# Altium footprint library myPcbLib1.PcbLib: 133 footprints (part 4 of 9)
Each footprint in its own frame and in the unit in brackets; x right, y up, seen from the top. Pads: shape width x height; smd on the part's side, far side on the other; paste and mask are expansions set on the pad; w line width, h text height; cw(c..) or ccw(c..) is an arc to the next point about the centre after c.
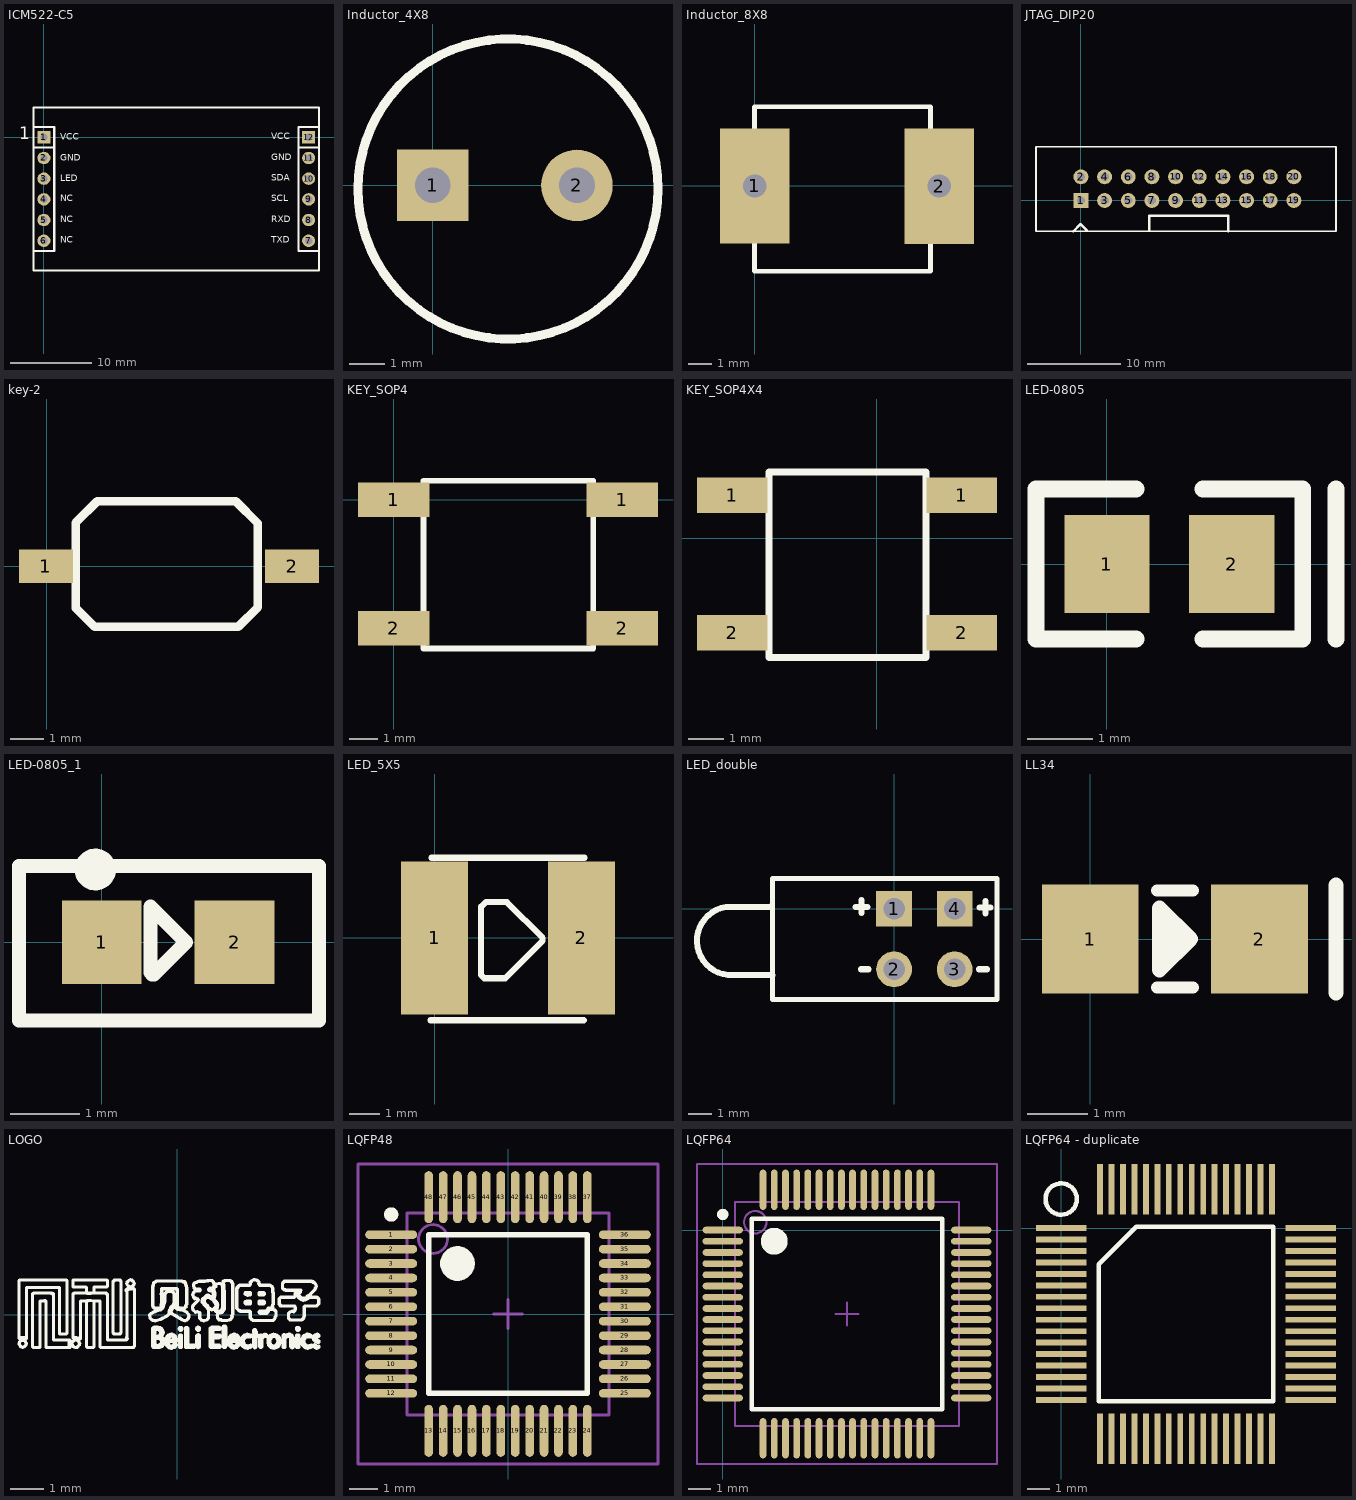
[diagram p3: the footprints below, top view; thin cyan lines are the x and y axes]

## ICM522-C5 [mm]
pads (12):
  rect 1.6x1.5 hole 0.9: 1(0,0) 12(32.487,0)
  oval 1.6x1.5 hole 0.9: 2(0,-2.54) 3(0,-5.08) 4(0,-7.62) 5(0,-10.16) 6(0,-12.7) 7(32.487,-12.7) 8(32.487,-10.16) 9(32.487,-7.62) 10(32.487,-5.08) 11(32.487,-2.54)
Top Overlay:
  lines w0.254: -1.27,-1.27 1.27,-1.27 ; 31.217,-1.27 33.757,-1.27 ; -1.27,-13.97 1.27,-13.97 1.27,1.27 -1.27,1.27 -1.27,-13.97 ; -1.256,-16.35 33.744,-16.35 33.744,3.65 -1.256,3.65 -1.256,-16.35 ; 31.217,-13.97 33.757,-13.97 33.757,1.27 31.217,1.27 31.217,-13.97
  text "RXD" at 27.928,-10.414 h0.8
  text "GND" at 27.928,-2.794 h0.8
  text "TXD" at 27.928,-12.954 h0.8
  text "NC" at 2.02,-12.954 h0.8
  text "NC" at 2.02,-7.874 h0.8
  text "NC" at 2.02,-10.414 h0.8
  text "LED" at 2.023,-5.371 h0.8
  text "SCL" at 27.928,-7.874 h0.8
  text "SDA" at 27.928,-5.334 h0.8
  text "GND" at 2.023,-2.903 h0.8
  text "VCC" at 1.975,-0.325 h0.8
  text "VCC" at 27.928,-0.254 h0.8
  text "1" at -3.06,-0.254 h1.52

## Inductor_4X8 [mm]
pads (2):
  rect 2x2 hole 1: 1(0,0)
  round 2 hole 1: 2(4.039,0)
Top Overlay:
  circle w0.254: c2.108,-0.102 r4.2

## Inductor_8X8 [mm]
pads (2):
  rect 3x5 hole 1: 1(0,0) 2(7.993,-0.003)
Top Overlay:
  lines w0.203: -0.007,-3.686 7.613,-3.686 7.613,3.426 -0.007,3.426 -0.007,3.172 -0.007,-3.686

## JTAG_DIP20 [mm]
pads (20):
  rect 1.6x1.6 hole 0.9: 1(0,0)
  round 1.6 hole 0.9: 2(0,2.54) 3(2.54,0) 4(2.54,2.54) 5(5.08,0) 6(5.08,2.54) 7(7.62,0) 8(7.62,2.54) 9(10.16,0) 10(10.16,2.54) 11(12.7,0) 12(12.7,2.54) 13(15.24,0) 14(15.24,2.54) 15(17.78,0) 16(17.78,2.54) 17(20.32,0) 18(20.32,2.54) 19(22.86,0) 20(22.86,2.54)
Top Overlay:
  lines w0.2: -4.826,0.635 -4.826,5.766 27.381,5.766 27.381,-3.302 -4.826,-3.302 -4.826,1.905
  lines w0.254: -0.813,-3.302 -0.051,-2.54 0.635,-3.226 ; 7.341,-3.226 7.341,-1.651 15.824,-1.651 15.824,-3.302

## key-2 [mm] "3*6*2.5mm"
pads (2):
  rect 1.6x1 smd: 1(-0.025,0) 2(7.29,0)
Top Overlay:
  lines w0.254: 0.864,-1.245 1.422,-1.803 5.69,-1.803 6.274,-1.219 6.274,1.27 5.613,1.93 1.499,1.93 0.864,1.295 0.864,0.508 0.864,-1.245

## KEY_SOP4 [mm]
pads (4):
  rect 2.5x1.2 smd: 1(0,0) 1(8,0) 2(0,-4.5) 2(8,-4.5)
Top Overlay:
  lines w0.2: 1.041,-5.207 1.041,0.66 6.985,0.66 6.985,-5.207 1.041,-5.207

## KEY_SOP4X4 [mm]
pads (4):
  rect 2x1 smd: 1(-4.089,1.219) 1(2.412,1.219) 2(-4.089,-2.671) 2(2.412,-2.671)
Top Overlay:
  lines w0.2: -3.048,-3.378 -3.048,1.88 1.397,1.88 1.397,-3.378 -3.048,-3.378

## LED-0805 [mm]
pads (2):
  rect 1.3x1.5 smd: 1(0,0) 2(1.9,0)
Top Overlay:
  lines w0.254: 0.442,-1.143 -1.082,-1.143 -1.082,1.143 0.442,1.143 ; 1.458,-1.143 2.982,-1.143 2.982,1.143 1.458,1.143 ; 3.49,-1.143 3.49,1.143

## LED-0805_1 [mm]
pads (2):
  rect 1.14x1.2 smd: 1(0,0) 2(1.9,0)
Top Overlay:
  circle w0.254: c-0.091,1.041 r0.17
  lines w0.2: -1.184,-1.118 -1.184,0.27 -1.184,1.092 3.109,1.092 3.109,-1.118 -1.184,-1.118
  lines w0.203: 0.696,-0.432 0.696,0.508 1.204,0 0.747,-0.457 0.721,-0.457 0.696,-0.432

## LED_5X5 [mm]
pads (2):
  rect 2.2x5 smd: 1(0,0) 2(4.801,0)
Top Overlay:
  lines w0.2: -0.127,-2.692 4.877,-2.692 ; -0.102,2.616 4.902,2.616 ; 1.524,-1.219 1.524,1.016 1.676,1.168 1.905,1.168 2.362,1.168 3.531,0 3.531,-0.102 2.311,-1.321 1.753,-1.321 1.626,-1.321 1.524,-1.219

## LED_double [mm]
pads (4):
  rect 1.5x1.5 hole 0.9: 1(0,0) 4(2.54,0)
  round 1.5 hole 0.9: 2(0,-2.54) 3(2.54,-2.54)
Top Overlay:
  lines w0.2: 0.635,1.27 4.318,1.27 4.318,-3.81 -5.105,-3.81 -5.105,1.27 1.905,1.27
  lines w0.254: -5.156,0.102 cw(c-5.218,0.163) -5.218,0.076 -7.061,0.076 ccw(c-6.833,-1.346) -6.965,-2.781 -5.137,-2.781 cw(c-5.137,-2.826) -5.105,-2.794 ; -1.626,0.076 -1.118,0.076 ; -1.397,-2.54 -1.067,-2.54 ; -1.372,-0.167 -1.372,0.356 ; 3.556,-2.54 3.901,-2.54 ; 3.581,0.051 4.039,0.051 ; 3.835,-0.203 3.835,0.33

## LL34 [mm]
pads (2):
  rect 1.6x1.8 smd: 1(0,0) 2(2.8,0)
Top Overlay:
  lines w0.2: 1.1,-0.8 1.7,-0.8 ; 1.1,0.8 1.7,0.8
  lines w0.254: 1.39,0.264 1.39,-0.01 1.146,-0.254 1.146,0.508 ; 4.067,-0.889 4.067,0.889 ; 1.146,0.508 1.146,-0.508 1.654,0 1.146,0.508

## LOGO [mm]
Top Overlay:
  drawing of 1860 lines, arcs and shapes, not listed

## LQFP48 [mm]
pads (48):
  oval 1.8x0.3 smd: 1(-4.05,2.75) 2(-4.05,2.25) 3(-4.05,1.75) 4(-4.05,1.25) 5(-4.05,0.75) 6(-4.05,0.25) 7(-4.05,-0.25) 8(-4.05,-0.75) 9(-4.05,-1.25) 10(-4.05,-1.75) 11(-4.05,-2.25) 12(-4.05,-2.75) 25(4.05,-2.75) 26(4.05,-2.25) 27(4.05,-1.75) 28(4.05,-1.25) 29(4.05,-0.75) 30(4.05,-0.25) 31(4.05,0.25) 32(4.05,0.75) 33(4.05,1.25) 34(4.05,1.75) 35(4.05,2.25) 36(4.05,2.75)
  oval 0.3x1.8 smd: 13(-2.75,-4.05) 14(-2.25,-4.05) 15(-1.75,-4.05) 16(-1.25,-4.05) 17(-0.75,-4.05) 18(-0.25,-4.05) 19(0.25,-4.05) 20(0.75,-4.05) 21(1.25,-4.05) 22(1.75,-4.05) 23(2.25,-4.05) 24(2.75,-4.05) 37(2.75,4.05) 38(2.25,4.05) 39(1.75,4.05) 40(1.25,4.05) 41(0.75,4.05) 42(0.25,4.05) 43(-0.25,4.05) 44(-0.75,4.05) 45(-1.25,4.05) 46(-1.75,4.05) 47(-2.25,4.05) 48(-2.75,4.05)
Top Overlay:
  circle w0.25: c-4.05,3.45 r0.125
  circle w0.6: c-1.75,1.75 r0.3
  lines w0.2: -2.75,-2.75 -2.75,2.75 2.75,2.75 2.75,-2.75 -2.75,-2.75
Mechanical 13:
  circle w0.1: c-2.6,2.6 r0.5
  lines w0.1: -3.5,-3.5 -3.5,3.5 3.5,3.5 3.5,-3.5 -3.5,-3.5
Mechanical 15:
  lines w0.1: -0.5,0 0.5,0 ; 0,-0.5 0,0.5 ; -5.2,-5.2 -5.2,5.2 5.2,5.2 5.2,-5.2 -5.2,-5.2
3D body: height 1.6, standoff 0, extent -3.5,-3.5 3.5,3.5

## LQFP64 [mm] "Thin QFP, 64-Leads, Body 10x10mm, Pitch 0.5mm, IPC Medium Density"
pads (64):
  oval 1.8x0.3 smd: 1(0,0) 2(0,-0.5) 3(0,-1) 4(0,-1.5) 5(0,-2) 6(0,-2.5) 7(0,-3) 8(0,-3.5) 9(0,-4) 10(0,-4.5) 11(0,-5) 12(0,-5.5) 13(0,-6) 14(0,-6.5) 15(0,-7) 16(0,-7.5) 33(11.1,-7.5) 34(11.1,-7) 35(11.1,-6.5) 36(11.1,-6) 37(11.1,-5.5) 38(11.1,-5) 39(11.1,-4.5) 40(11.1,-4) 41(11.1,-3.5) 42(11.1,-3) 43(11.1,-2.5) 44(11.1,-2) 45(11.1,-1.5) 46(11.1,-1) 47(11.1,-0.5) 48(11.1,0)
  oval 0.3x1.8 smd: 17(1.8,-9.3) 18(2.3,-9.3) 19(2.8,-9.3) 20(3.3,-9.3) 21(3.8,-9.3) 22(4.3,-9.3) 23(4.8,-9.3) 24(5.3,-9.3) 25(5.8,-9.3) 26(6.3,-9.3) 27(6.8,-9.3) 28(7.3,-9.3) 29(7.8,-9.3) 30(8.3,-9.3) 31(8.8,-9.3) 32(9.3,-9.3) 49(9.3,1.8) 50(8.8,1.8) 51(8.3,1.8) 52(7.8,1.8) 53(7.3,1.8) 54(6.8,1.8) 55(6.3,1.8) 56(5.8,1.8) 57(5.3,1.8) 58(4.8,1.8) 59(4.3,1.8) 60(3.8,1.8) 61(3.3,1.8) 62(2.8,1.8) 63(2.3,1.8) 64(1.8,1.8)
Top Overlay:
  circle w0.6: c2.3,-0.5 r0.3
  circle w0.25: c0,0.7 r0.125
  lines w0.2: 1.3,-8 9.8,-8 9.8,0.5 1.3,0.5 1.3,-8
Mechanical 13:
  circle w0.1: c1.45,0.35 r0.5
  lines w0.1: 0.55,-8.75 10.55,-8.75 10.55,1.25 0.55,1.25 0.55,-8.75
Mechanical 15:
  lines w0.1: 5.05,-3.75 6.05,-3.75 ; 5.55,-4.25 5.55,-3.25 ; -1.15,-10.45 12.25,-10.45 12.25,2.95 -1.15,2.95 -1.15,-10.45
3D body: height 1.6, standoff 0, extent 0.55,-8.75 10.55,1.25

## LQFP64 - duplicate [mm] "LQFP64"
pads (64):
  rect 2.2x0.254 smd: 1(0,0) 2(0,-0.5) 3(0,-1) 4(0,-1.5) 5(0,-2) 6(0,-2.5) 7(0,-3) 8(0,-3.5) 9(0,-4) 10(0,-4.5) 11(0,-5) 12(0,-5.5) 13(0,-6) 14(0,-6.5) 15(0,-7) 16(0,-7.5) 33(10.9,-7.5) 34(10.9,-7) 35(10.9,-6.5) 36(10.9,-6) 37(10.9,-5.5) 38(10.9,-5) 39(10.9,-4.5) 40(10.9,-4) 41(10.9,-3.5) 42(10.9,-3) 43(10.9,-2.5) 44(10.9,-2) 45(10.9,-1.5) 46(10.9,-1) 47(10.9,-0.5) 48(10.9,0)
  rect 0.254x2.2 smd: 17(1.7,-9.2) 18(2.2,-9.2) 19(2.7,-9.2) 20(3.2,-9.2) 21(3.7,-9.2) 22(4.2,-9.2) 23(4.7,-9.2) 24(5.2,-9.2) 25(5.7,-9.2) 26(6.2,-9.2) 27(6.7,-9.2) 28(7.2,-9.2) 29(7.7,-9.2) 30(8.2,-9.2) 31(8.7,-9.2) 32(9.2,-9.2) 49(9.2,1.7) 50(8.7,1.7) 51(8.2,1.7) 52(7.7,1.7) 53(7.2,1.7) 54(6.7,1.7) 55(6.2,1.7) 56(5.7,1.7) 57(5.2,1.7) 58(4.7,1.7) 59(4.2,1.7) 60(3.7,1.7) 61(3.2,1.7) 62(2.7,1.7) 63(2.2,1.7) 64(1.7,1.7)
Top Overlay:
  circle w0.2: c0,1.27 r0.684
  lines w0.2: 1.635,-7.565 9.265,-7.565 9.265,0.065 3.27,0.065 1.635,-1.57 1.635,-7.565